# EAGLE library part EEPROM_SPI (library pimoroni-ics)
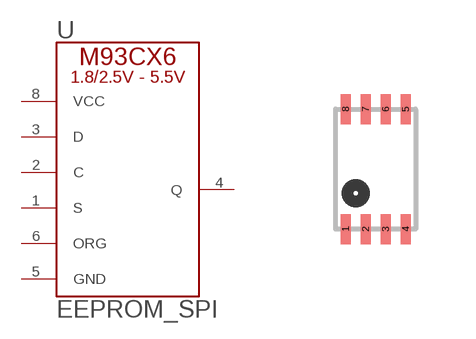
[diagram p141: symbol with the pads of UDFN-2X3-8; footprint UDFN-2X3-8]

Designator prefix U

## EEPROM_SPI  [UDFN-2X3-8]
1  S
2  C
3  D
4  Q
5  GND
6  ORG
8  VCC

## Footprint UDFN-2X3-8 (pad centres in mm)
smd 0.25 x 0.75: 1 -0.75,-1.5; 2 -0.25,-1.5; 3 0.25,-1.5; 4 0.75,-1.5; 5 0.75,1.5; 6 0.25,1.5; 7 -0.25,1.5; 8 -0.75,1.5